# EAGLE library part A3916 (library Base)
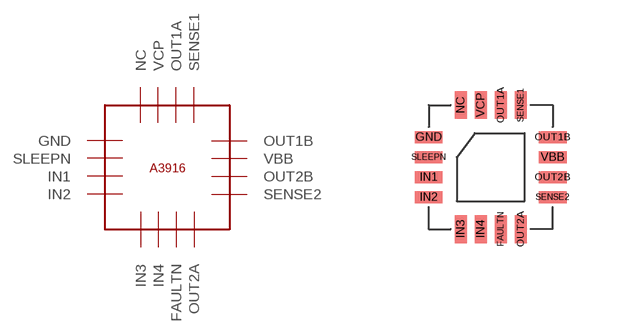
[diagram p6: symbol with the pads of QFN16; footprint QFN16]

Designator prefix -

## A3916  [QFN16]
FAULTN  FAULTN
GND  GND
IN1  IN1
IN2  IN2
IN3  IN3
IN4  IN4
NC  NC
OUT1A  OUT1A
OUT1B  OUT1B
OUT2A  OUT2A
OUT2B  OUT2B
SENSE1  SENSE1
SENSE2  SENSE2
SLEEPN  SLEEPN
VBB  VBB
VCP  VCP

## Footprint QFN16 (pad centres in mm)
smd 0.3 x 0.7: FAULTN 0.25,-1.55; IN3 -0.75,-1.55; IN4 -0.25,-1.55; NC -0.75,1.55; OUT1A 0.25,1.55; OUT2A 0.75,-1.55; SENSE1 0.75,1.55; VCP -0.25,1.55
smd 0.7 x 0.3: GND -1.55,0.75; IN1 -1.55,-0.25; IN2 -1.55,-0.75; OUT1B 1.55,0.75; OUT2B 1.55,-0.25; SENSE2 1.55,-0.75; SLEEPN -1.55,0.25; VBB 1.55,0.25